# Altium footprint library Altuim_PCB_Lib.PcbLib: 52 footprints (part 2 of 4)
Each footprint in its own frame and in the unit in brackets; x right, y up, seen from the top. Pads: shape width x height; smd on the part's side, far side on the other; paste and mask are expansions set on the pad; w line width, h text height; cw(c..) or ccw(c..) is an arc to the next point about the centre after c.
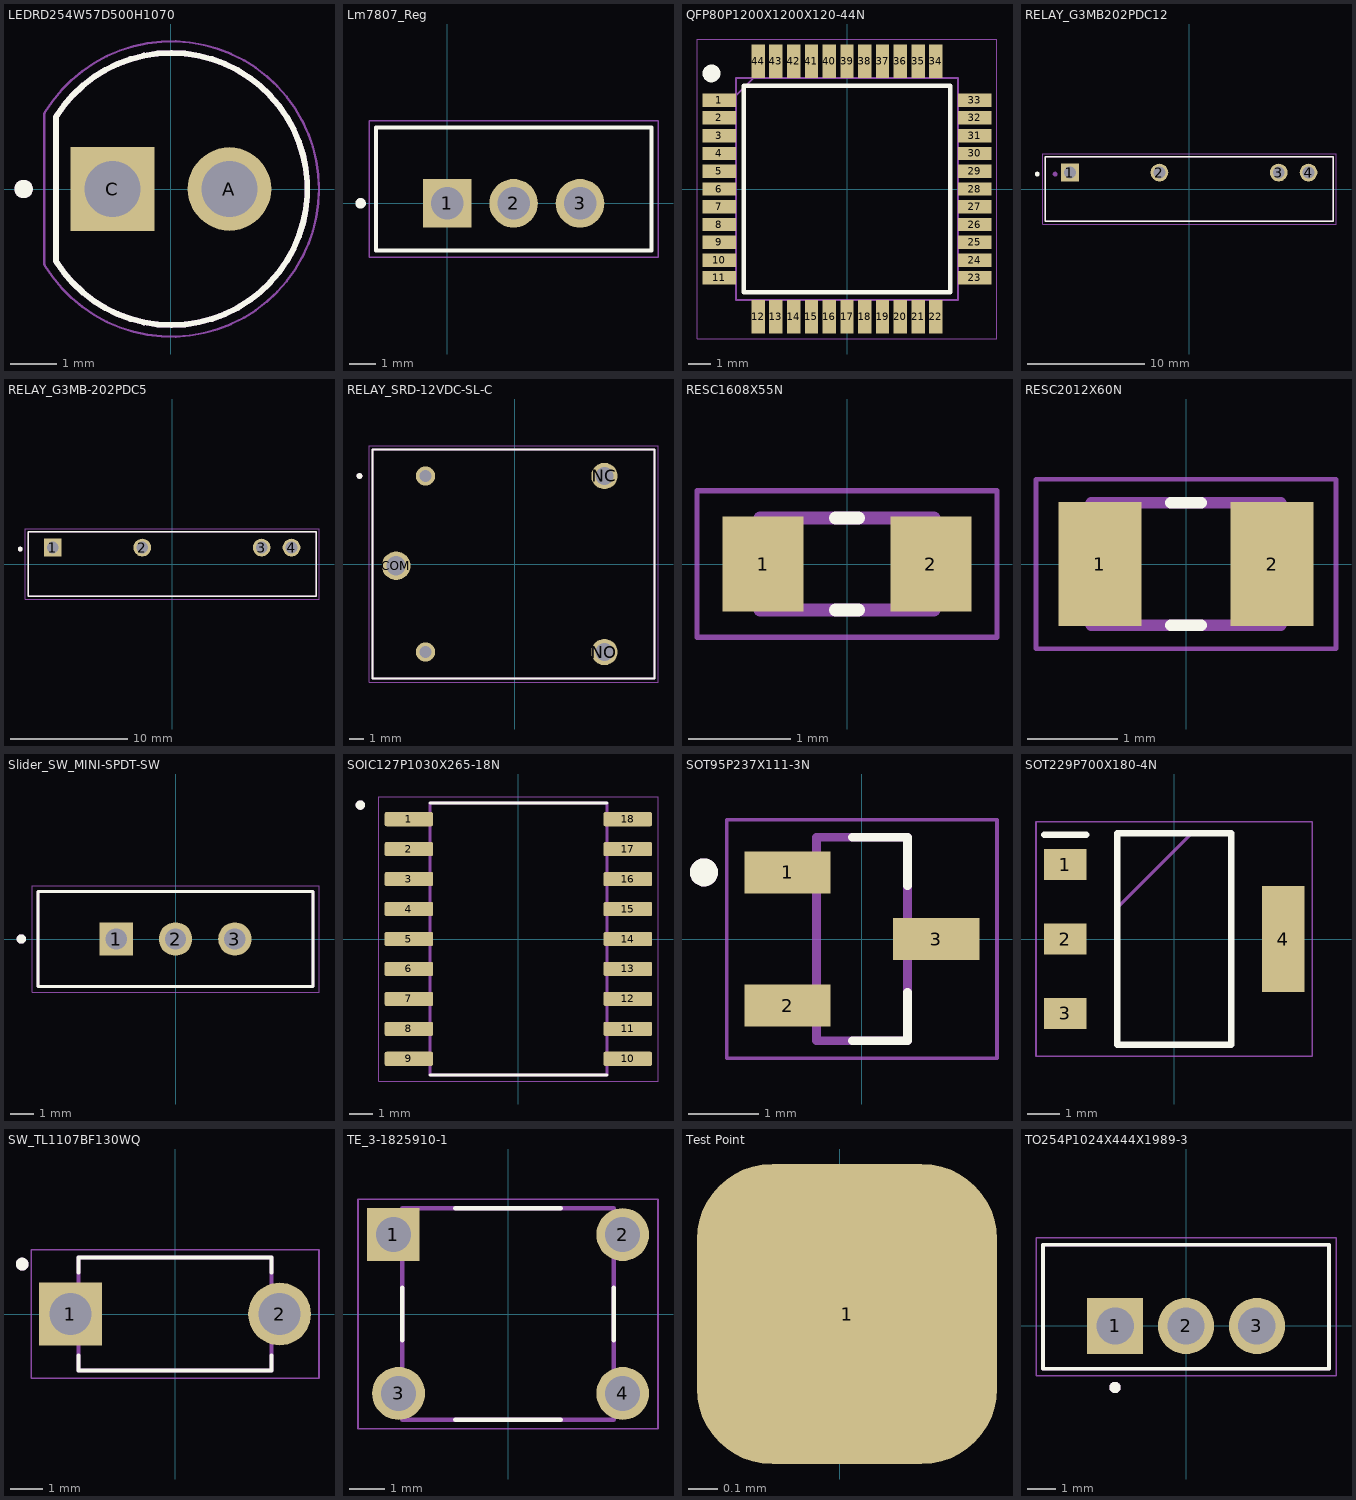
[diagram p1: the footprints below, top view; thin cyan lines are the x and y axes]

## LEDRD254W57D500H1070 [mm]
height 10.7
pads (2):
  round 1.815 hole 1.21: A(1.27,0)
  rect 1.815x1.815 / inner round 1.815 / far side rect 1.815x1.815 hole 1.21: C(-1.27,0)
Top Overlay:
  circle w0.2: c-3.2,0 r0.1
  lines w0.127: -2.5,-1.566 ccw(c0.006,0) -2.5,1.566 -2.5,-1.566
Mechanical 13:
  circle w0.2: c-3.2,0 r0.1
  lines w0.127: -2.5,-1.566 ccw(c0.006,0) -2.5,1.566 -2.5,-1.566
Mechanical 15:
  lines w0.05: -2.75,-1.64 -2.75,1.64 ; -2.743,-1.652 ccw(c0.007,0) -2.743,1.652
3D body "step_temp.STEP": height 9.1, standoff -17.8, extent -2.6,-2.95 2.95,2.95

## Lm7807_Reg [mm]
pads (3):
  rect 1.86x1.86 / inner round 1.86 / far side rect 1.86x1.86 hole 1.24: 1(0,0)
  round 1.86 hole 1.24: 2(2.54,0) 3(5.08,0)
Top Overlay:
  circle w0.2: c-3.31,0 r0.1
  lines w0.152: -2.73,-1.8 7.81,-1.8 7.81,2.9 -2.73,2.9 -2.73,-1.8
Mechanical 13:
  lines w0.127: -2.73,-1.8 7.81,-1.8 7.81,2.9 -2.73,2.9 -2.73,-1.8
Mechanical 15:
  lines w0.05: -2.98,-2.052 -2.98,3.148 8.06,3.148 8.06,-2.052 -2.98,-2.052
3D body "step_temp.STEP": height 19.56, standoff -10.46, extent -2.445,-1.778 7.525,2.667

## QFP80P1200X1200X120-44N [mm]
pads (44):
  rect 1.5x0.6 smd: 1(-5.75,4) 2(-5.75,3.2) 3(-5.75,2.4) 4(-5.75,1.6) 5(-5.75,0.8) 6(-5.75,0) 7(-5.75,-0.8) 8(-5.75,-1.6) 9(-5.75,-2.4) 10(-5.75,-3.2) 11(-5.75,-4) 23(5.75,-4) 24(5.75,-3.2) 25(5.75,-2.4) 26(5.75,-1.6) 27(5.75,-0.8) 28(5.75,0) 29(5.75,0.8) 30(5.75,1.6) 31(5.75,2.4) 32(5.75,3.2) 33(5.75,4)
  rect 0.6x1.5 smd: 12(-4,-5.75) 13(-3.2,-5.75) 14(-2.4,-5.75) 15(-1.6,-5.75) 16(-0.8,-5.75) 17(0,-5.75) 18(0.8,-5.75) 19(1.6,-5.75) 20(2.4,-5.75) 21(3.2,-5.75) 22(4,-5.75) 34(4,5.75) 35(3.2,5.75) 36(2.4,5.75) 37(1.6,5.75) 38(0.8,5.75) 39(0,5.75) 40(-0.8,5.75) 41(-1.6,5.75) 42(-2.4,5.75) 43(-3.2,5.75) 44(-4,5.75)
Top Overlay:
  circle w0.4: c-6.1,5.2 r0.2
  lines w0.2: -4.65,-4.65 -4.65,4.65 4.65,4.65 4.65,-4.65 -4.65,-4.65
Mechanical 15:
  lines w0.1: -5,4.2 -4.2,5 ; -5,-5 -5,5 5,5 5,-5 -5,-5
Mechanical 20:
  lines w0.05: -6.75,-6.75 -6.75,6.75 6.75,6.75 6.75,-6.75 -6.75,-6.75
3D body "ATMEGA32U4-AUR.stp": height 1.2, standoff 0, extent -6,-6 6,6

## RELAY_G3MB202PDC12 [mm]
pads (4):
  rect 1.508x1.508 hole 1: 1(-10.16,1.4)
  round 1.508 hole 1: 2(-2.54,1.4) 3(7.62,1.4) 4(10.16,1.4)
Top Overlay:
  circle w0.2: c-12.954,1.27 r0.1
  lines w0.127: -12.25,-2.75 12.25,-2.75 12.25,2.75 -12.25,2.75 -12.25,-2.75
Mechanical 13:
  circle w0.2: c-11.43,1.27 r0.1
  lines w0.127: -12.25,-2.75 12.25,-2.75 12.25,2.75 -12.25,2.75 -12.25,-2.75
Mechanical 15:
  lines w0.05: -12.5,-3 -12.5,3 12.5,3 12.5,-3 -12.5,-3
3D body "step_temp.STEP": height 20.5, standoff -3.9, extent -12.25,-2.75 12.25,2.75

## RELAY_G3MB-202PDC5 [mm]
pads (4):
  rect 1.508x1.508 hole 1: 1(-10.16,1.4)
  round 1.508 hole 1: 2(-2.54,1.4) 3(7.62,1.4) 4(10.16,1.4)
Top Overlay:
  circle w0.2: c-12.93,1.27 r0.1
  lines w0.127: -12.25,-2.75 12.25,-2.75 12.25,2.75 -12.25,2.75 -12.25,-2.75
Mechanical 13:
  circle w0.2: c-12.93,1.27 r0.1
  lines w0.127: -12.25,-2.75 12.25,-2.75 12.25,2.75 -12.25,2.75 -12.25,-2.75
Mechanical 15:
  lines w0.05: -12.5,-3 -12.5,3 12.5,3 12.5,-3 -12.5,-3
3D body "G3MB-202P.STEP": height 20.5, standoff -3.9, extent -12.25,-2.753 12.25,2.747

## RELAY_SRD-12VDC-SL-C [mm]
pads (5):
  round 1.308 hole 0.8: COIL1(-6.1,6) COIL2(-6.1,-6)
  round 1.95 hole 1.3: COM(-8.1,-0.12)
  round 1.8 hole 1.2: NC(6.1,6) NO(6.1,-6)
Top Overlay:
  circle w0.2: c-10.6,6 r0.1
  lines w0.127: -9.7,-7.8 9.5,-7.8 9.5,7.8 -9.7,7.8 -9.7,-7.8
Mechanical 13:
  circle w0.2: c-10.6,6 r0.1
  lines w0.127: -9.7,-7.8 9.5,-7.8 9.5,7.8 -9.7,7.8 -9.7,-7.8
Mechanical 15:
  lines w0.05: -9.95,-8.05 9.75,-8.05 9.75,8.05 -9.95,8.05 -9.95,-8.05
3D body "SRD-12VDC-SL-C.STEP": height 15.8, standoff -3, extent -9.727,-7.8 9.473,7.8

## RESC1608X55N [mm]
pads (2):
  rect 0.79x0.93 smd: 1(-0.82,0) 2(0.82,0)
Top Overlay:
  lines w0.127: -0.11,-0.45 0.11,-0.45 ; -0.11,0.45 0.11,0.45
Mechanical 13:
  lines w0.127: -0.85,-0.45 0.85,-0.45 0.85,0.45 -0.85,0.45 -0.85,-0.45
Mechanical 15:
  lines w0.05: -1.465,-0.715 1.465,-0.715 1.465,0.715 -1.465,0.715 -1.465,-0.715
3D body "RT0603DRE07320RL.STEP": height 0.45, standoff 0, extent -0.8,-0.4 0.8,0.4

## RESC2012X60N [mm]
pads (2):
  rect 0.92x1.38 smd: 1(-0.955,0) 2(0.955,0)
Top Overlay:
  lines w0.127: -0.17,-0.68 0.17,-0.68 ; -0.17,0.68 0.17,0.68
Mechanical 13:
  lines w0.127: -1.05,-0.68 1.05,-0.68 1.05,0.68 -1.05,0.68 -1.05,-0.68
Mechanical 15:
  lines w0.05: -1.665,-0.94 1.665,-0.94 1.665,0.94 -1.665,0.94 -1.665,-0.94
3D body "RT0805BRD07320RL.STEP": height 0.6, standoff 0, extent -1,-0.625 1,0.625

## Slider_SW_MINI-SPDT-SW [mm]
pads (3):
  rect 1.408x1.408 hole 0.9: 1(-2.5,0)
  round 1.408 hole 0.9: 2(0,0) 3(2.5,0)
Top Overlay:
  circle w0.2: c-6.5,0 r0.1
  lines w0.127: -5.8,-2 -5.8,2 5.8,2 5.8,-2 -5.8,-2
Mechanical 13:
  circle w0.2: c-6.5,0 r0.1
  lines w0.127: -5.8,-2 -5.8,2 5.8,2 5.8,-2 -5.8,-2
Mechanical 15:
  lines w0.05: -6.05,-2.25 -6.05,2.25 6.05,2.25 6.05,-2.25 -6.05,-2.25
3D body "MINI-SPDT-SW--3DModel-STEP-56544.STEP": height 7.4, standoff -4.7, extent -5.8,-2 5.8,2

## SOIC127P1030X265-18N [mm]
pads (18):
  rrect25% 2.06x0.6 smd: 1(-4.64,5.08) 2(-4.64,3.81) 3(-4.64,2.54) 4(-4.64,1.27) 5(-4.64,0) 6(-4.64,-1.27) 7(-4.64,-2.54) 8(-4.64,-3.81) 9(-4.64,-5.08) 10(4.64,-5.08) 11(4.64,-3.81) 12(4.64,-2.54) 13(4.64,-1.27) 14(4.64,0) 15(4.64,1.27) 16(4.64,2.54) 17(4.64,3.81) 18(4.64,5.08)
Top Overlay:
  circle w0.2: c-6.7,5.68 r0.1
  lines w0.127: -3.75,-5.775 3.75,-5.775 ; -3.75,5.775 3.75,5.775
Mechanical 13:
  circle w0.2: c-6.7,5.68 r0.1
  lines w0.127: -3.75,-5.775 -3.75,5.775 3.75,5.775 3.75,-5.775 -3.75,-5.775
Mechanical 15:
  lines w0.05: -5.92,-6.025 -5.92,6.025 5.92,6.025 5.92,-6.025 -5.92,-6.025
3D body "ULN2803ADWR--3DModel-STEP-56544.STEP": height 2.65, standoff 0, extent -5.15,-5.775 5.15,5.775

## SOT95P237X111-3N [mm]
height 1.11
pads (3):
  rect 1.23x0.6 smd: 1(-1.06,0.95) 2(-1.06,-0.95) 3(1.06,0)
Top Overlay:
  circle w0.2: c-2.25,0.95 r0.1
  lines w0.127: -0.132,-1.45 0.65,-1.45 0.65,-0.762 ; -0.132,1.45 0.65,1.45 0.65,0.762
Mechanical 13:
  circle w0.2: c-2.25,0.95 r0.1
  lines w0.127: -0.65,-1.45 0.65,-1.45 0.65,1.45 -0.65,1.45 -0.65,-1.45
Mechanical 15:
  lines w0.05: -1.925,-1.7 1.925,-1.7 1.925,1.7 -1.925,1.7 -1.925,-1.7
3D body "BSS138LT1G.stp": height 1.11, standoff 0, extent -1.185,-1.46 1.185,1.46

## SOT229P700X180-4N [mm]
pads (4):
  rect 1.3x0.95 smd: 1(-3.35,2.29) 2(-3.35,0) 3(-3.35,-2.29)
  rect 1.3x3.25 smd: 4(3.35,0)
Top Overlay:
  lines w0.2: -4,3.2 -2.7,3.2 ; -1.752,-3.252 1.752,-3.252 1.752,3.252 -1.752,3.252 -1.752,-3.252
Mechanical 15:
  lines w0.1: -1.752,0.962 0.538,3.252 ; -1.752,-3.252 1.752,-3.252 1.752,3.252 -1.752,3.252 -1.752,-3.252
Mechanical 20:
  lines w0.05: -4.25,-3.605 4.25,-3.605 4.25,3.605 -4.25,3.605 -4.25,-3.605
3D body "AMS1117.stp": height 1.8, standoff 0, extent -3.5,-3.253 3.5,3.253

## SW_TL1107BF130WQ [mm]
pads (2):
  rect 1.95x1.95 hole 1.3: 1(-3.25,0)
  round 1.95 hole 1.3: 2(3.25,0)
Top Overlay:
  circle w0.2: c-4.75,1.549 r0.1
  lines w0.127: -3,-1.295 -3,-1.75 3,-1.75 3,-1.295 ; -3,1.295 -3,1.75 3,1.75 3,1.295
Mechanical 13:
  circle w0.2: c-4.75,1.549 r0.1
  lines w0.127: -3,-1.75 -3,1.75 3,1.75 3,-1.75 -3,-1.75
Mechanical 15:
  lines w0.05: -4.475,-2 -4.475,2 4.475,2 4.475,-2 -4.475,-2
3D body "step_temp.STEP": height 5, standoff -3.5, extent -3.949,-1.75 3.949,1.75

## TE_3-1825910-1 [mm]
pads (4):
  rect 1.498x1.498 / inner round 1.498 / far side rect 1.498x1.498 hole 0.99: 1(-3.25,2.25)
  round 1.498 hole 0.99: 2(3.25,2.25) 3(-3.1,-2.25) 4(3.25,-2.25)
Top Overlay:
  lines w0.127: -3,-0.75 -3,0.75 ; -1.5,-3 1.5,-3 ; -1.5,3 1.5,3 ; 3,-0.75 3,0.75
Mechanical 13:
  lines w0.127: -3,-3 3,-3 3,3 -3,3 -3,-3
Mechanical 15:
  lines w0.05: -4.25,-3.25 -4.25,3.25 4.25,3.25 4.25,-3.25 -4.25,-3.25
3D body "step_temp.STEP": height 17.01, standoff -3.51, extent -3.898,-2.995 3.9,2.995

## Test Point [mil]
pads (1):
  rrect50% 40x40 smd: 1(1,32)

## TO254P1024X444X1989-3 [mm]
height 19.89
pads (3):
  rect 2.01x2.01 / inner round 2.01 / far side rect 2.01x2.01 hole 1.34: 1(-2.54,0)
  round 2.01 hole 1.34: 2(0,0) 3(2.54,0)
Top Overlay:
  circle w0.2: c-2.54,-2.2 r0.1
  lines w0.127: -5.12,-1.538 5.12,-1.538 5.12,2.907 -5.12,2.907 -5.12,-1.538
Mechanical 13:
  circle w0.2: c-2.54,-2.2 r0.1
  lines w0.127: -5.12,-1.538 -5.12,2.907 5.12,2.907 5.12,-1.538 -5.12,-1.538
Mechanical 15:
  lines w0.05: -5.37,-1.787 -5.37,3.157 5.37,3.157 5.37,-1.787 -5.37,-1.787
3D body "step_temp.STEP": height 19.89, standoff -10.36, extent -5.118,-1.537 5.118,2.908